# Altium footprint library PCB - RESISTOR - MELF - MMA02040C3322FB000.PcbLib: 1 footprints
Each footprint in its own frame and in the unit in brackets; x right, y up, seen from the top. Pads: shape width x height; smd on the part's side, far side on the other; paste and mask are expansions set on the pad; w line width, h text height; cw(c..) or ccw(c..) is an arc to the next point about the centre after c.
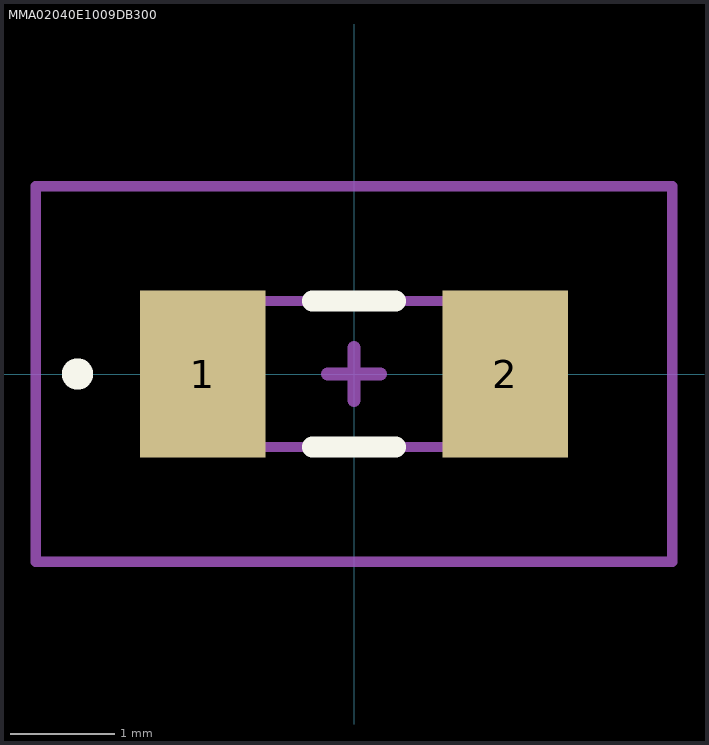
[diagram p0: the footprint, top view; thin cyan lines are the x and y axes]

## MMA02040E1009DB300 [mm]
pads (2):
  rect 1.2x1.6 smd: 1(-1.45,0) 2(1.45,0)
Top Overlay:
  lines w0.2: -0.4,-0.7 0.4,-0.7 ; -0.4,0.7 0.4,0.7 ; -2.7,0 cw(c-2.65,0) -2.6,0 ; -2.7,0 ccw(c-2.65,0) -2.6,0 ; -2.7,0 -2.6,0
Top Assembly:
  lines w0.1: -1.8,-0.7 1.8,-0.7 1.8,0.7 -1.8,0.7 -1.8,-0.7
Top Courtyard:
  lines w0.1: -3.05,-1.8 -3.05,1.8 3.05,1.8 3.05,-1.8 -3.05,-1.8
Top Designator:
  text ".Designator" at -2.667,2.074 h0.51
Top Component Center:
  lines w0.127: -0.254,0 0,0 ; 0,-0.254 0,0 ; 0,0.254 0,0 ; 0.254,0 0,0
3D body "MMA02040E1009DB300.stp": height 1.4, standoff 0, extent -1.8,-0.7 1.8,0.7